# Altium schematic symbol library TA08-81GWA.SchLib: 1 symbol
Pins are listed as number, name and electrical type; pins without a type are passive.

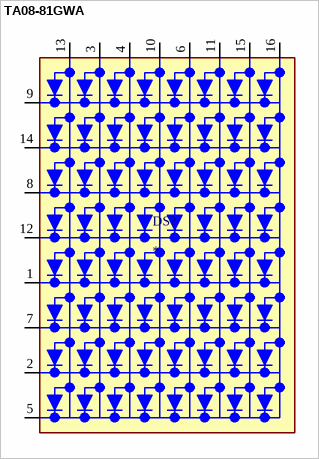
[diagram p0: symbol TA08-81GWA]

## TA08-81GWA
designator DS?
DISPLAY, DOT MATRIX, 0.8, 8X8, GREEN; Display Dots x Lines: 8 x 8; LED Colour: Gr; MF: Kingbright; MP: TA08-81GWA; Package: DIP-16 Kingbright; Availability: Not in stock; Value: *; Check_prices: https://www.snapeda.com/parts/TA08-81GWA/Kingbright/view-part/?ref=eda; SnapEDA_Link: https://www.snapeda.com/parts/TA08-81GWA/Kingbright/view-part/?ref=snap; Price: None
footprint DISPLAY_TA08-81GWA
pins: 1 CATHODE_ROW_5, 2 CATHODE_ROW_7, 3 ANODE_COLUMN_2, 4 ANODE_COLUMN_3, 5 CATHODE_ROW_8, 6 ANODE_COLUMN_5, 7 CATHODE_ROW_6, 8 CATHODE_ROW_3, 9 CATHODE_ROW_1, 10 ANODE_COLUMN_4, 11 ANODE_COLUMN_6, 12 CATHODE_ROW_4, 13 ANODE_COLUMN_1, 14 CATHODE_ROW_2, 15 ANODE_COLUMN_7, 16 ANODE_COLUMN_8